# Altium schematic symbol library lib-hiony.SchLib: 199 symbols (part 3 of 4)
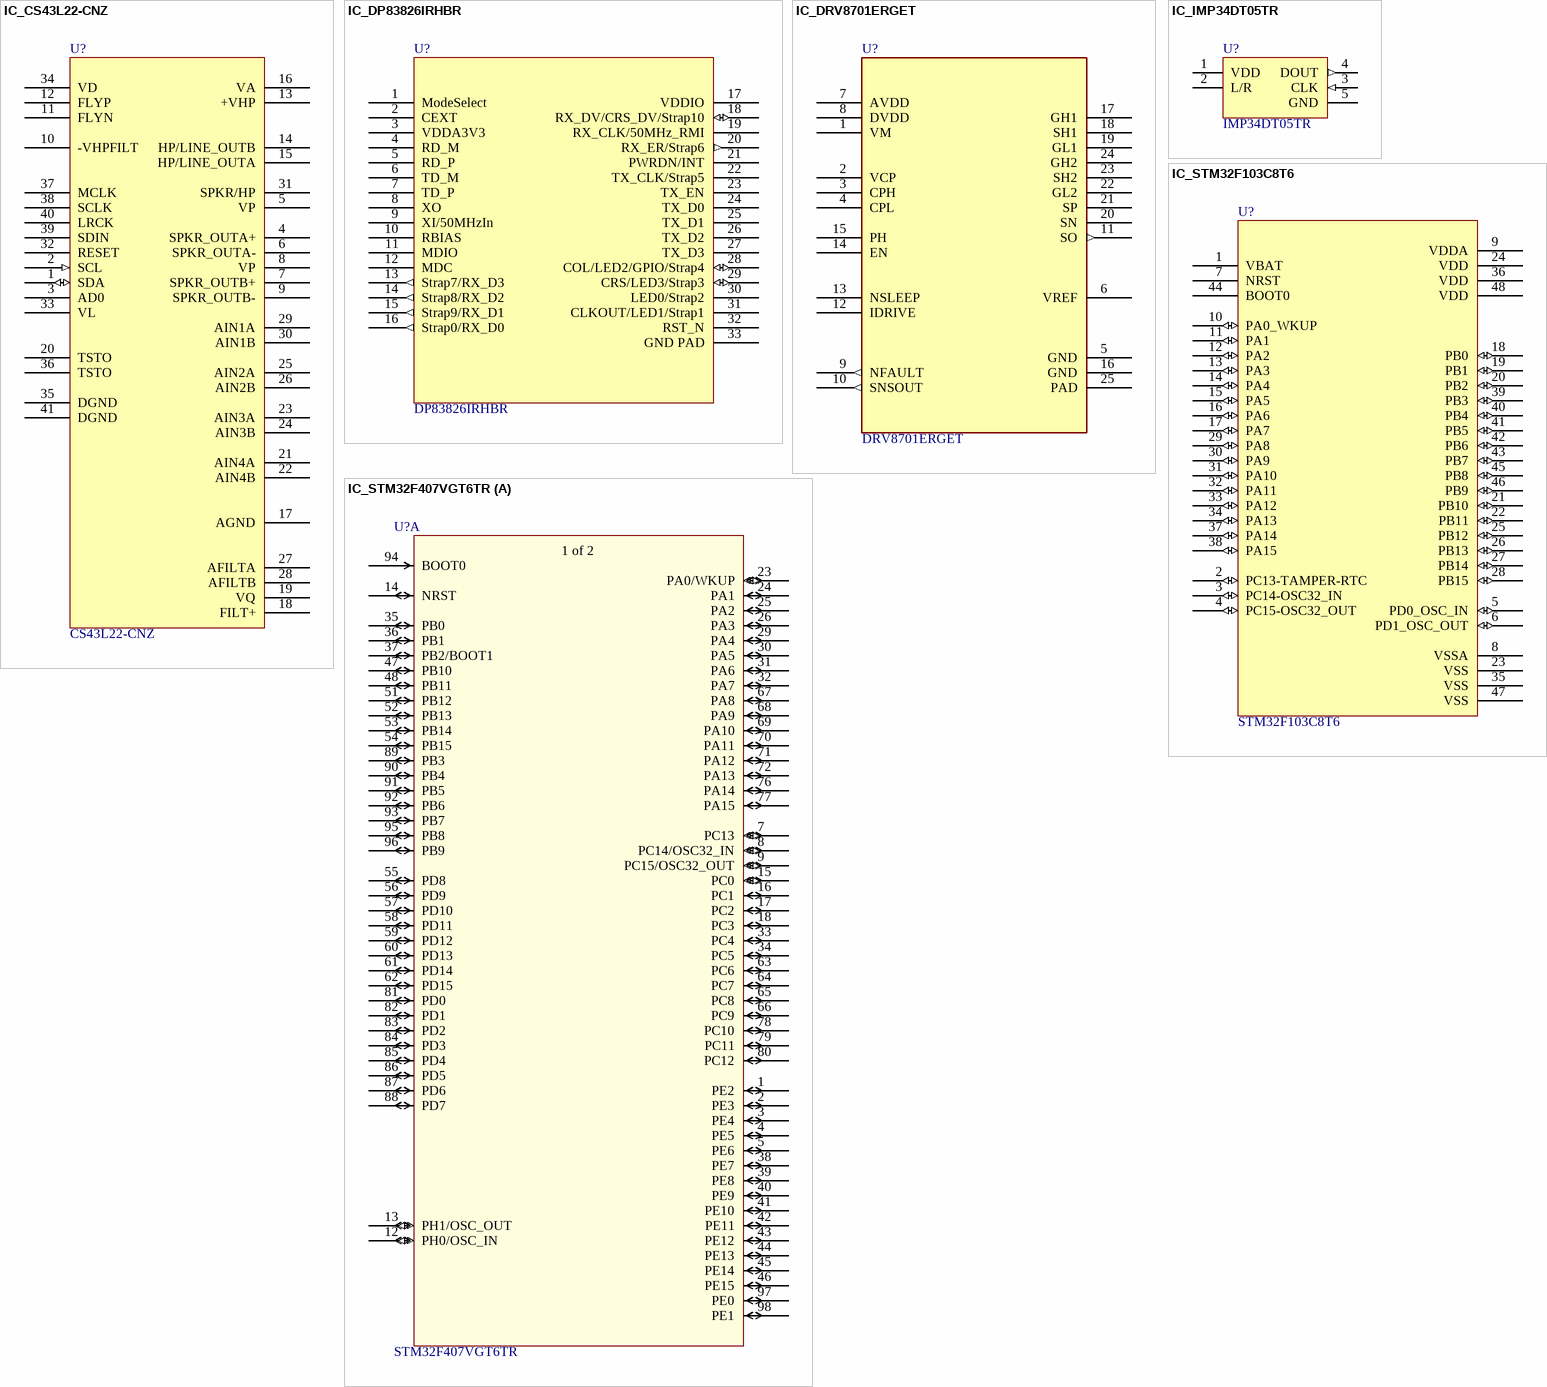
[diagram p7: symbols IC_CS43L22-CNZ to IC_STM32F407VGT6TR]

## IC_DP83826IRHBR
designator U?, comment DP83826IRHBR
Ethernet MAC Controller IEEE 802.3, 10/100 Base-T/TX PHY MII, RMII Interface 32-VQFN (5x5); Manufacturer: Texas Instruments; Supplier 1: Digi-Key; Manufacturer Part Number: DP83826IRHBR; RoHS: Yes; Pricing 1: 1=2.14000, 10=1.91900, 25=1.81000, 100=1.54210, 250=1.44796, 500=1.26696, 1000=1.14061 (USD); Supplier Part Number 1: 296-DP83826IRHBRCT-ND
footprint VQFN32_19_218_23X9_SMD
pins: 1 ModeSelect, 2 CEXT, 3 VDDA3V3, 4 RD_M, 5 RD_P, 6 TD_M, 7 TD_P, 8 XO, 9 XI/50MHzIn, 10 RBIAS, 11 MDIO, 12 MDC, 13 Strap7/RX_D3 (out), 14 Strap8/RX_D2 (out), 15 Strap9/RX_D1 (out), 16 Strap0/RX_D0 (out), 17 VDDIO, 18 RX_DV/CRS_DV/Strap10 (io), 19 RX_CLK/50MHz_RMI, 20 RX_ER/Strap6 (out), 21 PWRDN/INT, 22 TX_CLK/Strap5, 23 TX_EN, 24 TX_D0, 25 TX_D1, 26 TX_D2, 27 TX_D3, 28 COL/LED2/GPIO/Strap4 (io), 29 CRS/LED3/Strap3 (io), 30 LED0/Strap2, 31 CLKOUT/LED1/Strap1, 32 RST_N, 33 GND PAD

## IC_DRV8701ERGET
designator U?, comment DRV8701ERGET
IC MOTOR DRIVER 0V-5.5V 24VQFN; Manufacturer: Texas Instruments; Supplier 1: Digi-Key; Manufacturer Part Number: DRV8701ERGET; Category: Integrated Circuits (ICs); Pricing 1: 1=2.52000, 10=2.26100, 25=2.13320, 100=1.81750 (USD); Mount: Surface Mount; Case/Package: VQFN; ComponentLink1URL: http://www.ti.com/general/docs/lit/getliterature.tsp?genericPartNumber=DRV8701&&fileType=pdf&src-supplier=Avnet; ComponentLink1Description: http://www.ti.com/general/docs/lit/getliterature.tsp?genericPartNumber=DRV8701&&fileType=pdf&src-supplier=Avnet; ComponentLink2URL: http://www.ti.com/lit/ds/symlink/drv8701.pdf?src-supplier=Digi-Key; ComponentLink2Description: http://www.ti.com/lit/ds/symlink/drv8701.pdf?src-supplier=Digi-Key
footprint QFN50P400X400X100-25N
pins: 1 VM, 2 VCP, 3 CPH, 4 CPL, 5 GND (power), 6 VREF, 7 AVDD (power), 8 DVDD (power), 9 NFAULT (out), 10 SNSOUT (out), 11 SO (out), 12 IDRIVE, 13 NSLEEP, 14 EN, 15 PH, 16 GND (power), 17 GH1, 18 SH1, 19 GL1, 20 SN, 21 SP, 22 GL2, 23 SH2, 24 GH2, 25 PAD (power)

## IC_IMP34DT05TR
designator U?, comment IMP34DT05TR
MEMS Microphones AUTO & INDUSTRIAL SENSORS; Manufacturer: STMicroelectronics; Alternate Part Number-1: NA; Manufacturer Part Number: IMP34DT05TR; Case/Package: HCLGA-4; Supplier-1: Mouser; Supplier Part Number-1: 511-IMP34DT05TR
footprint HCLGA-4_53_137_15X37_SMD
pins: 1 VDD, 2 L/R, 3 CLK (in), 4 DOUT (out), 5 GND

## IC_STM32F103C8T6
designator U?, comment STM32F103C8T6
STMICROELECTRONICS - STM32F103C8T6 - ARM MCU, Motor Control, STM32 Family STM32F1 Series Microcontrollers, ARM Cortex-M3, 32bit, 72 MHz; Number of I/Os: 37; Supplier 1: Digi-Key; Manufacturer: STMicroelectronics; Manufacturer Part Number: STM32F103C8T6; Category: Microcontrollers; Pricing 1: 1=5.95000, 10=5.34300, 25=5.05120, 80=4.37763, 250=4.15316, 500=3.72664, 1000=3.27390 (USD); Case/Package: LQFP; Number of Pins: 48; ComponentLink1URL: https://datasheet.ciiva.com/15122/getdatasheetpartid-69880-15122076.pdf?src-supplier=Verical; ComponentLink1Description: https://datasheet.ciiva.com/15122/getdatasheetpartid-69880-15122076.pdf?src-supplier=Verical; ComponentLink2URL: https://datasheet.ciiva.com/26816/stm32f103c8t6-26816902.pdf?src-supplier=IIIC; ComponentLink2Description: https://datasheet.ciiva.com/26816/stm32f103c8t6-26816902.pdf?src-supplier=IIIC; ComponentLink3URL: https://datasheet.ciiva.com/16210/cd00161566-16210248.pdf?src-supplier=Future+Electronics; ComponentLink3Description: https://datasheet.ciiva.com/16210/cd00161566-16210248.pdf?src-supplier=Future+Electronics; ComponentLink4URL: https://datasheet.ciiva.com/14100/pustm-arm-microcont-stm32f103-en-14100508.pdf?src-supplier=Distrelec; ComponentLink4Description: https://datasheet.ciiva.com/14100/pustm-arm-microcont-stm32f103-en-14100508.pdf?src-supplier=Distrelec; ComponentLink5URL: https://datasheet.ciiva.com/8054/1730126-8054942.pdf?src-supplier=Element14; ComponentLink5Description: https://datasheet.ciiva.com/8054/1730126-8054942.pdf?src-supplier=Element14; ComponentLink6URL: https://datasheet.ciiva.com/48687/001075658-da-01-en-mcu-64kb-mem-stm32f103c8t6-lqfp-48-stm-48687589.pdf?src-supplier=Conrad; ComponentLink6Description: https://datasheet.ciiva.com/48687/001075658-da-01-en-mcu-64kb-mem-stm32f103c8t6-lqfp-48-stm-48687589.pdf?src-supplier=Conrad
footprint LQFP-48_SMD
pins: 1 VBAT, 2 PC13-TAMPER-RTC (io), 3 PC14-OSC32_IN (io), 4 PC15-OSC32_OUT (io), 5 PD0_OSC_IN (io), 6 PD1_OSC_OUT (io), 7 NRST, 8 VSSA (power), 9 VDDA (power), 10 PA0_WKUP (io), 11 PA1 (io), 12 PA2 (io), 13 PA3 (io), 14 PA4 (io), 15 PA5 (io), 16 PA6 (io), 17 PA7 (io), 18 PB0 (io), 19 PB1 (io), 20 PB2 (io), 21 PB10 (io), 22 PB11 (io), 23 VSS (power), 24 VDD (power), 25 PB12 (io), 26 PB13 (io), 27 PB14 (io), 28 PB15 (io), 29 PA8 (io), 30 PA9 (io), 31 PA10 (io), 32 PA11 (io), 33 PA12 (io), 34 PA13 (io), 35 VSS (power), 36 VDD (power), 37 PA14 (io), 38 PA15 (io), 39 PB3 (io), 40 PB4 (io), 41 PB5 (io), 42 PB6 (io), 43 PB7 (io), 44 BOOT0, 45 PB8 (io), 46 PB9 (io), 47 VSS (power), 48 VDD (power)

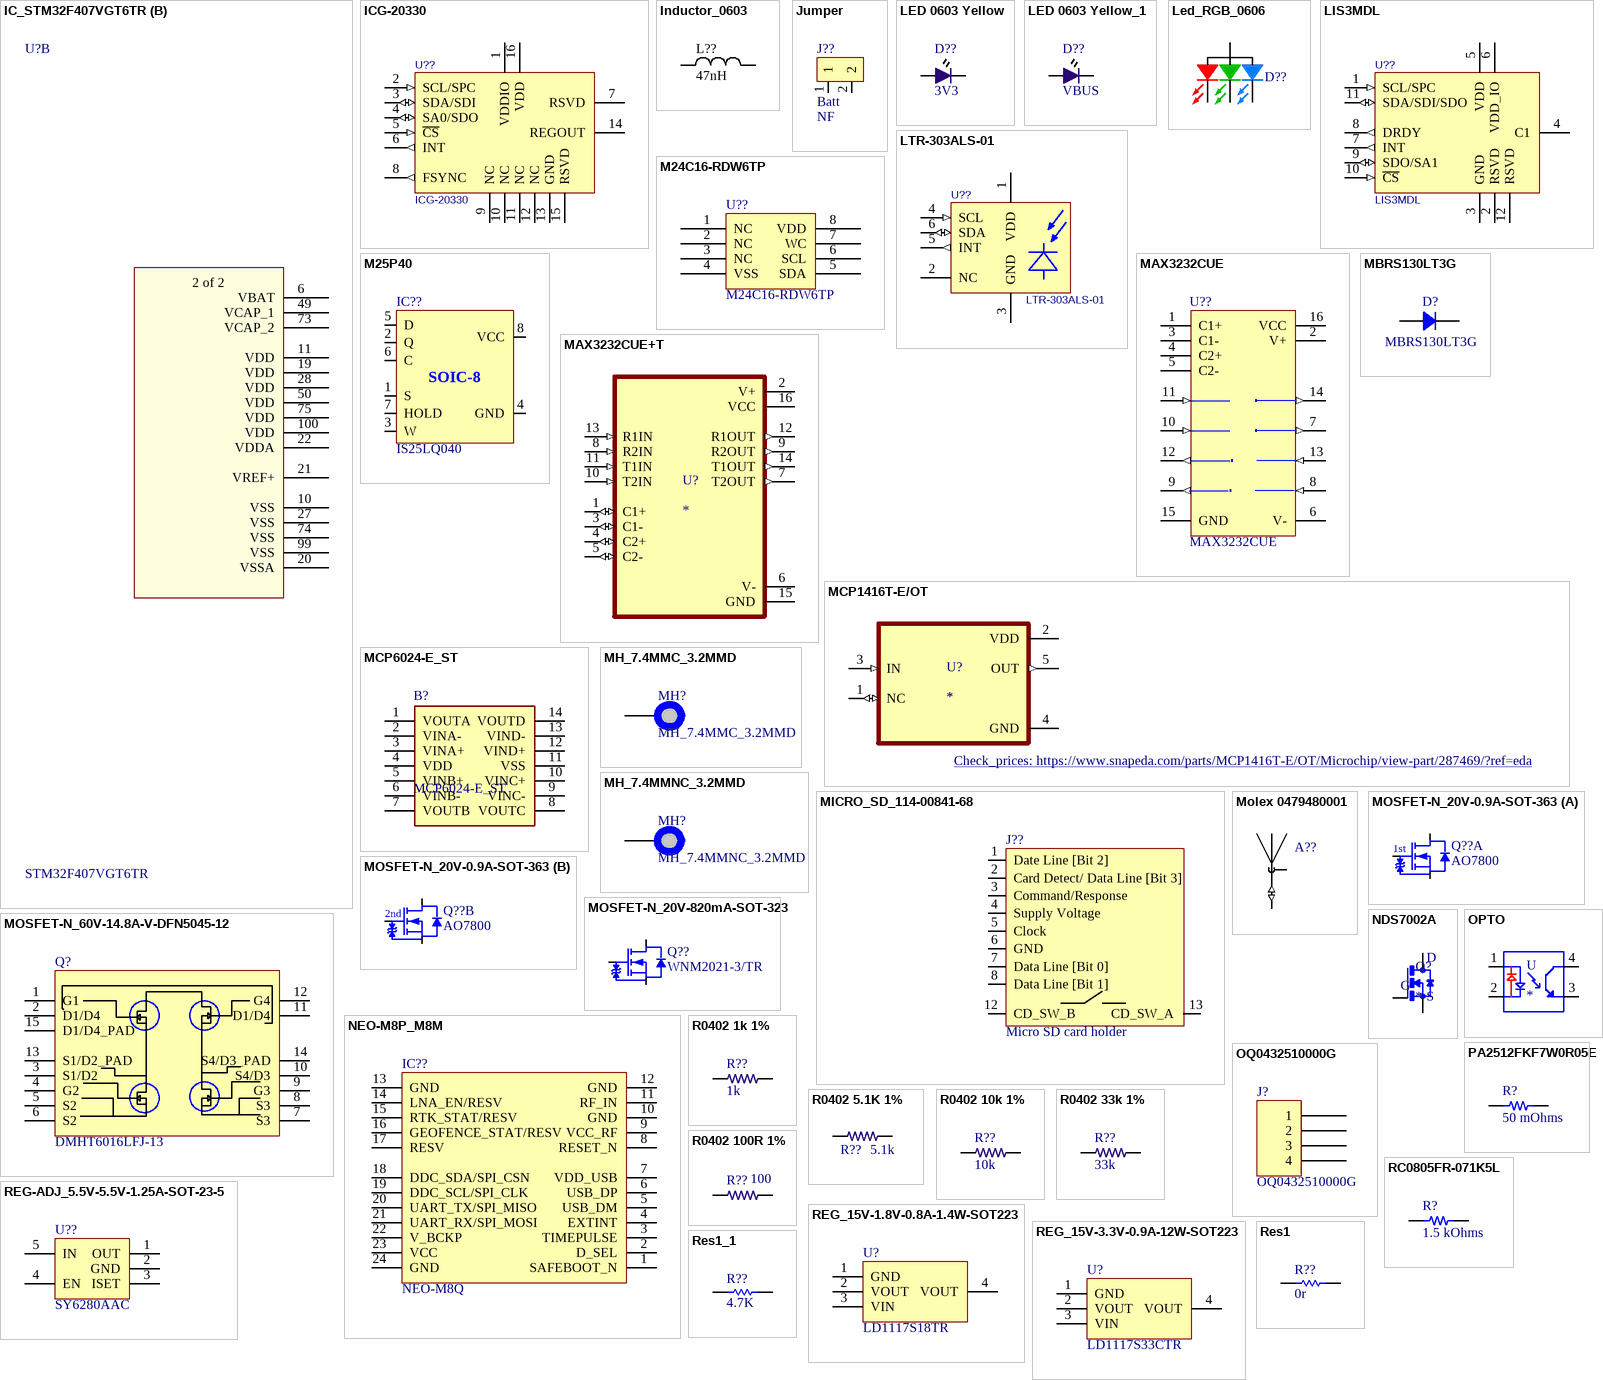
[diagram p4: symbols IC_STM32F407VGT6TR to Res1_1]

## IC_STM32F407VGT6TR
designator U?, comment STM32F407VGT6TR
STM32F Series 1 MB Flash 192 kB RAM ARM Based 32-Bit Microcontroller - LQFP-100; Manufacturer: STMicroelectronics; Number of I/Os: 82; Supplier 1: Digi-Key; Manufacturer Part Number: STM32F407VGT6TR; Category: Microcontrollers; Pricing 1: 1=13.51000, 10=12.41300, 25=11.89840, 100=10.48360, 250=9.96904, 500=9.37948 (USD); Case/Package: LQFP; Number of Pins: 100; Packaging: Tape and Reel; ComponentLink1URL: https://datasheet.ciiva.com/46384/1719442-46384038.pdf?src-supplier=Element14; ComponentLink1Description: https://datasheet.ciiva.com/46384/1719442-46384038.pdf?src-supplier=Element14; ComponentLink2URL: https://datasheet.ciiva.com/29719/dm00037051-29719319.pdf?src-supplier=Digi-Key; ComponentLink2Description: https://datasheet.ciiva.com/29719/dm00037051-29719319.pdf?src-supplier=Digi-Key; ComponentLink3URL: https://datasheet.ciiva.com/22692/1719442-22692042.pdf?src-supplier=Element14; ComponentLink3Description: https://datasheet.ciiva.com/22692/1719442-22692042.pdf?src-supplier=Element14; ComponentLink4URL: https://datasheet.ciiva.com/12270/dm00037051-492832-12270799.pdf?src-supplier=Mouser; ComponentLink4Description: https://datasheet.ciiva.com/12270/dm00037051-492832-12270799.pdf?src-supplier=Mouser; Supplier Part Number 1: 497-17437-6-ND
footprint QFN100_19.6_669_58X10_SMD
part A pins: 1 PE2, 2 PE3, 3 PE4, 4 PE5, 5 PE6, 7 PC13 (io), 8 PC14/OSC32_IN (io), 9 PC15/OSC32_OUT (io), 12 PH0/OSC_IN (io), 13 PH1/OSC_OUT (io), 14 NRST, 15 PC0 (io), 16 PC1, 17 PC2, 18 PC3, 23 PA0/WKUP (io), 24 PA1, 25 PA2, 26 PA3, 29 PA4, 30 PA5, 31 PA6, 32 PA7, 33 PC4, 34 PC5, 35 PB0, 36 PB1, 37 PB2/BOOT1, 38 PE7, 39 PE8, 40 PE9, 41 PE10, 42 PE11, 43 PE12, 44 PE13, 45 PE14, 46 PE15, 47 PB10, 48 PB11, 51 PB12, 52 PB13, 53 PB14, 54 PB15, 55 PD8, 56 PD9, 57 PD10, 58 PD11, 59 PD12, 60 PD13, 61 PD14, 62 PD15, 63 PC6, 64 PC7, 65 PC8, 66 PC9, 67 PA8, 68 PA9, 69 PA10, 70 PA11, 71 PA12, 72 PA13, 76 PA14, 77 PA15, 78 PC10, 79 PC11, 80 PC12, 81 PD0, 82 PD1, 83 PD2, 84 PD3, 85 PD4, 86 PD5, 87 PD6, 88 PD7, 89 PB3, 90 PB4, 91 PB5, 92 PB6, 93 PB7, 94 BOOT0, 95 PB8, 96 PB9, 97 PE0, 98 PE1
part B pins: 6 VBAT (power), 10 VSS (power), 11 VDD (power), 19 VDD (power), 20 VSSA (power), 21 VREF+ (power), 22 VDDA (power), 27 VSS (power), 28 VDD (power), 49 VCAP_1 (power), 50 VDD (power), 73 VCAP_2 (power), 74 VSS (power), 75 VDD (power), 99 VSS (power), 100 VDD (power)
part A text: 1 of 2
part B text: 2 of 2

## ICG-20330
designator U??  Manufacturer Part Number 1: ICG-20330
SENSOR, Gyroscope, I2C, 3-AXIS, 1.7-3.45V, SMT, LGA-16, 3mmX3mm; Manufacturer 1: TDK InvenSense; Part Name: LIS3MDL; Body Size: 2mm x 2mm; Current: None; Item Phase: In Production; MFG Package: LGA-12; Use in new designs: Yes; Voltage: 1.9-3.6V; Part Number: ICG-20330; Height: 1mm; Max Operating Temp: 85; Min Operating Temp: -40; Pins: 12; Revision: 0A; UBX Code: None
footprint ICG-20330 (LGA 0.5mm Pitch, 3x3, 16 Pin, 3.0mm x 3.0mm)
pins: 1 VDDIO (power) "Digital I/O supply voltage", 2 SCL/SPC (in) "I2C serial clock (SCL); SPI serial clock (SPC)", 3 SDA/SDI (io) "I2C serial data (SDA); SPI serial data input (SDI)", 4 SA0/SDO (io) "I2C slave address LSB (SA0); SPI serial data output (SDO)", 5 ~{CS} (in) "Chip select (0 = SPI mode; 1 = I2C mode)", 6 INT (out) "Interrupt digital output (totem pole or open-drain)", 7 RSVD "Reserved. Do Not Connect.", 8 FSYNC (out) "Synchronization digital input (optional).  Connect to GND if unused.", 9 NC "Connect to GND or do not connect", 10 NC "Connect to GND or do not connect", 11 NC "Connect to GND or do not connect", 12 NC "Connect to GND or do not connect", 13 GND (power) "Connect to GND", 14 REGOUT "Regulator filter capacitor connection", 15 RSVD "Reserved. Connect to GND", 16 VDD (power) "Power Supply"

## Inductor_0603
designator L??, comment 47nH
Manufacturer: COILCRAFT; Manufacturer Part Number: 0402HP-47NXJLU; Part Description: COILCRAFT  0402HP-47NXJLU  Surface Mount High Frequency Inductor, 0402HP Series, 47 nH, 420 mA, 0402 [1005 Metric], Wirewound; SVHC: No SVHC (15-Jun-2015); Inductance Tolerance: ± 5%; High Frequency Inductor Case: 0402 [1005 Metric]; Inductor Case Style: 0402 [1005 Metric]<!--FANDB--><div class="features-and-benefits-container"></div>; Inductance: 47; DC Resistance Max: 0.58; Self Resonant Frequency Min: 2.4; Product Range: 0402; DC Current Rating: 420; Inductor Construction: Wirewound; Supplier 1: Farnell; Supplier Part Number 1: 2285856; Packaging: Cut Tape; RoHS: Y-EX; value: 47nH; Manufacturer Part Number 1: 0402HP-47NXJLU
footprint RES0402 (Chip Resistor, Body 1.0x0.5mm, EIA 0402, IPC Medium Density)
pins: 1, 2

## Jumper
designator J??, comment Batt  Assembly Info: NF
Manufacturer Part Number 1: 961102-6404-AR; Part Description: 2 Positions Header, Unshrouded Connector 0.100" (2.54mm) Through Hole Gold; Manufacturer: 3M; Connector Type: Header, Unshrouded; Supplier 1: Digi-Key; Supplier Part Number 1: 3M9447-ND; Contact Type: Male Pin; Color: Black; Mounting Type: Through Hole; Category: Connectors, Interconnects; Contact Finish: Gold
footprint HDR_1x2
pins: 1, 2

## LED 0603 Yellow
designator D??, comment 3V3
LED YELLOW CLEAR 0603 SMD; Supplier 1: Digi-Key; Supplier Part Number 1: 732-4981-1-ND
footprint LED0603-IPC
pins: A, K

## LED 0603 Yellow_1
designator D??, comment VBUS
LED YELLOW CLEAR 0603 SMD; Supplier 1: Digi-Key; Supplier Part Number 1: 732-4981-1-ND
footprint LED0603-IPC
pins: A, K

## Led_RGB_0606
designator D??, comment RGB  (value not drawn)
RGB Led 1.6 x 1.6 mm Diffused; Manufacturer: Everlight; Manufacturer Part Number: 19-237/R6GHBHW-C01/2T; Supplier 1: Digi-Key; Supplier Part Number 1: 1080-1590-1-ND
footprint RGB-LED
pins: A, BK, GK, RK

## LIS3MDL
designator U??  Manufacturer Part Number 1: LIS3MDL
SENSOR, MAGNETOMETER, I2C, 3-AXIS, 1.9-3.6V, SMT, LGA-12, 2mmX2mm; Manufacturer 1: ST Micro; Current: None; Item Phase: In Production; Use in new designs: Yes; Part Number: LIS3MDL; Body Size: 2mm x 2mm; Height: 1mm; MFG Package: LGA-12; Max Operating Temp: 85; Min Operating Temp: -40; Part Name: LIS3MDL; Pins: 12; Revision: 0A; Voltage: 1.9-3.6V; UBX Code: None
footprint LIS3MDL (LGA 0.5mm Pitch, 4x4 w/shared corners, 12 Pin, 2.0mm x 2.0mm)
pins: 1 SCL/SPC (in) "Serial Clock Input", 2 RSVD "Reserved, Connect to Ground", 3 GND (power), 4 C1 "Connect to 100nF capacitor", 5 VDD (power) "Power Supply In", 6 VDD_IO (power) "Power Supply for I/O", 7 INT (out) "Interrupt Output", 8 DRDY (out) "Data Ready Output", 9 SDO/SA1 (io) "SPI serial data output (SDO)I2C less significant bit of the device address (SA1", 10 ~{CS} (in) "Chip Select", 11 SDA/SDI/SDO (io) "Serial Data", 12 RSVD "Reserved, Connect to Ground"

## LTR-303ALS-01
designator U??  Manufacturer Part Number 1: LTR-303ALS-01
SENSOR, AMBIENT LIGHT, I2C, SMT, GNSS, DFN-6 2mmX2mm; Manufacturer 1: Lite-On; Part Name: B39162B4353P810; Body Size: 1.4mm x 1.1mm; Current: None; Item Phase: In Production; MFG Package: QCS5P; Use in new designs: Yes; Part Number: LTR-303ALS-01; Height: 0.45mm; Max Operating Temp: 85; Min Operating Temp: -40; Pins: 5; Revision: 0A; Voltage: N/A; UBX Code: None
footprint LTR-303ALS-01 (6-VFDFN, 6 pin Lite-ON Light Sensor, .65mm pitch, 2mmX2mm)
pins: 1 VDD (power) "Power Supply", 2 NC "No Connection", 3 GND (power) "Ground", 4 SCL (in) "I2C Clock Signal", 5 INT (out) "Open Drain Interrupt Output", 6 SDA (io) "I2C Data Signal"

## M24C16-RDW6TP
designator U??
IC EEPROM 16KBIT 400KHZ 8TSSOP; Digi-Key Part Number: 497-8639-1-ND; Manufacturer Part Number: M24C16-RDW6TP
footprint EEROM
pins: 1 NC, 2 NC, 3 NC, 4 VSS, 5 SDA, 6 SCL, 7 WC, 8 VDD

## M25P40
designator IC??, comment IS25LQ040
Manufacturer Part Number 1: IS25LQ040B-JNLE; Manufacturer: ISSI, Integrated Silicon Solution Inc; Part Description: FLASH - NOR Memory IC 4Mb (512K x 8) SPI - Quad I/O 104MHz  8-SOIC; Memory Type: Non-Volatile; Memory Format: FLASH; Memory Size: 4Mb (512K x 8); Write Cycle Time - Word, Page: 800µs; Memory Interface: SPI - Quad I/O; Voltage - Supply: 2.3 V ~ 3.6 V; Category: Integrated Circuits (ICs); Supplier Part Number 1: 706-1316-ND; Supplier 1: Digi-Key; RoHS: RoHS Compliant; Packaging: Bulk; Part Status: Active; Technology: FLASH - NOR; Operating Temperature: -40°C ~ 105°C (TA); Mounting Type: Surface Mount; Package / Case: 8-SOIC (0.154", 3.90mm Width); Supplier Device Package: 8-SOIC; Value: IS25LQ040
footprint M25P40-VMN6TPB_SO8N (SOIC, 8-Leads, Body 4,90x3,90mm, Pitch 1,27mm, IPC Medium Density)
pins: 1 S, 2 Q, 3 W, 4 GND, 5 D, 6 C, 7 HOLD, 8 VCC
text: SOIC-8

## MAX3232CUE
designator U??
IC TXRX RS232 250KBPS 16TSSOP; Manufacturer Part Number: MAX3232EIPWR; Digi-Key Part Number: 296-19436-1-ND
footprint TSSOP16_N (TSOP, 16-Leads, Body 5x4.4mm, Pitch 0.65mm, IPC Medium Density)
footprint TSSOP16_L (TSOP, 16-Leads, Body 5x4.4mm, Pitch 0.65mm, IPC High Density)
footprint TSSOP16_M (TSOP, 16-Leads, Body 5x4.4mm, Pitch 0.65mm, IPC Low Density)
3D model TSSOP16 (16-Pin Thin Small Outline Package 0.65 mm Pitch)
pins: 1 C1+, 2 V+ (power), 3 C1-, 4 C2+, 5 C2-, 6 V- (power), 7 T2OUT (out), 8 R2IN (in), 9 R2OUT (out), 10 T2IN (in), 11 T1IN (in), 12 R1OUT (out), 13 R1IN (in), 14 T1OUT (out), 15 GND (power), 16 VCC (power)

## MAX3232CUE+T
designator U?
3.0V to 5.5V, Low-Power, Up to 1Mbps, True RS-232 Transceivers; MF: Maxim Integrated; MP: MAX3232CUE+T; Digi-Key_Part_Number: MAX3232CUE+TTR-ND; Purchase-URL: https://pricing.snapeda.com/search/part/MAX3232CUE+T/?ref=eda; Value: *; Package: None; SnapEDA_Link: https://www.snapeda.com/parts/MAX3232CUE+T/Maxim+Integrated/view-part/?ref=snap; Check_prices: https://www.snapeda.com/parts/MAX3232CUE+T/Maxim+Integrated/view-part/?ref=eda
footprint MAX232
pins: 1 C1+ (io), 2 V+ (power), 3 C1- (io), 4 C2+ (io), 5 C2- (io), 6 V- (power), 7 T2OUT (out), 8 R2IN (in), 9 R2OUT (out), 10 T2IN (in), 11 T1IN (in), 12 R1OUT (out), 13 R1IN (in), 14 T1OUT (out), 15 GND (power), 16 VCC (power)

## MBRS130LT3G
designator D?
DIODE SCHOTTKY 30V 2A SMB; Manufacturer: ON Semiconductor; Current - Reverse Leakage @ Vr: 1mA @ 30V; Speed: Fast Recovery =< 500ns, > 200mA (Io); Voltage - Forward (Vf) (Max) @ If: 445mV @ 2A; Part Number: MBRS130LT3G; ComponentLink1Description: Datasheet; ComponentLink1URL: https://www.onsemi.com/pub/Collateral/MBRS130LT3-D.PDF; ComponentLink2Description: DigiKey Link; ComponentLink2URL: http://digikey.com/product-detail/en/on-semiconductor/MBRS130LT3G/MBRS130LT3GOSCT-ND/918000; Current - Average Rectified (Io): 2A; Diode Type: Schottky; LastUpdated: 9/2/2020 01:18:53; Lifecycle Status: Active; Minimum Order: 1; Mounting Type: Surface Mount; Operating Temperature - Junction: -65°C ~ 125°C; Package / Case: DO-214AA, SMB; Packaging: TapeAndReel; PartId: 1388; Part Status: Active; Price: 0.09; Series: -; Supplier 1: DigiKey; Supplier Part Number 1: MBRS130LT3GOSCT-ND; Supplier Device Package: SMB; Voltage - DC Reverse (Vr) (Max): 30V
footprint DO214AA SMB
pins: 1, 2

## MCP1416T-E/OT
designator U?
Low-Side Gate Driver IC Non-Inverting SOT-23-5; MF: Microchip; MP: MCP1416T-E/OT; Price: None; Availability: Good; SnapEDA_Link: https://www.snapeda.com/parts/MCP1416T-E/OT/Microchip/view-part/287469/?ref=snap; Package: SOT-23-5 Microchip; Value: *; Purchase-URL: https://pricing.snapeda.com/search/part/MCP1416T-E/OT/?ref=eda; Check_prices: https://www.snapeda.com/parts/MCP1416T-E/OT/Microchip/view-part/287469/?ref=eda
footprint SOT95P270X145-5N
pins: 1 NC (io), 2 VDD (power), 3 IN (in), 4 GND (power), 5 OUT (out)

## MCP6024-E_ST
designator B?
OP Amp Quad GP R-R I/O 5.5V; Manufacturer_Name: Microchip; Manufacturer_Part_Number: MCP6024-E/ST; Geometry.Height: 1.2mm; Mouser Part Number: 579-MCP6024-E/ST; Mouser Price/Stock: https://www.mouser.co.uk/ProductDetail/Microchip-Technology/MCP6024-E-ST?qs=Lo1urCY4z7s5t%252Byy%252BI7phw%3D%3D; Datasheet Link: https://ww1.microchip.com/downloads/en/DeviceDoc/20001685E.pdf
footprint SOP65P640X120-14N
pins: 1 VOUTA, 2 VINA-, 3 VINA+, 4 VDD, 5 VINB+, 6 VINB-, 7 VOUTB, 8 VOUTC, 9 VINC-, 10 VINC+, 11 VSS, 12 VIND+, 13 VIND-, 14 VOUTD

## MH_7.4MMC_3.2MMD
designator MH?
Mounting Hole 7.4mm Diameter, 3.2mm Dril
footprint MH_7.4MMC_3.2MMD
pins: 1

## MH_7.4MMNC_3.2MMD
designator MH?
Mounting Hole 7.4mm Diameter (Non Copper), 3.2mm Dril NPTH
footprint MH_7.4MM_3.2MMD_NON_COPPER_NPTH
pins: 1

## MICRO_SD_114-00841-68
designator J??, comment Micro SD card holder
Manufacturer: Amphenol Commercial Products; Manufacturer Part Number 1: 114-00841-68; Part Description: 10 (8 + 2) Position Card Connector Secure Digital - microSD™ Surface Mount, Right Angle Gold; Card Type: Secure Digital - microSD™; Number of Positions: 10 (8 + 2); Connector Type: Connector; Insertion, Removal Method: Push In, Pull Out; Supplier 1: Digi-Key; RoHS: RoHS Compliant; Category: Connectors, Interconnects; Stock 1: 5866; Pricing 1: 1=1.5, 10=1.358, 25=1.2752, 50=1.2196, 100=1.1642, 250=1.05336, 500=0.9702 (USD); Packaging: Cut Tape (CT); Part Status: Active; Ejector Side: -; Mounting Type: Surface Mount, Right Angle; Features: Switch; Height Above Board: 0.061" (1.55mm); Mounting Feature: Normal, Standard - Top; Contact Finish: Gold; Contact Finish Thickness: 15.0µin (0.38µm); ComponentLink1URL: https://www.amphenolcanada.com/ProductSearch/drawings/AC/1140084168.pdf; ComponentLink1Description: https://www.amphenolcanada.com/ProductSearch/drawings/AC/1140084168.pdf; Supplier Part Number 1: 114-00841-68-1-ND
footprint MICRO_SD_CARD_114-00841-68_v2
pins: 1 Date Line [Bit 2], 2 Card Detect/ Data Line [Bit 3], 3 Command/Response, 4 Supply Voltage, 5 Clock, 6 GND, 7 Data Line [Bit 0], 8 Data Line [Bit 1], 12 CD_SW_B, 13 CD_SW_A

## Molex 0479480001
designator A??, comment 0479480001  (value not drawn)
2.4GHz Bluetooth, WLAN, Zigbee™ Chip RF Antenna 2.4GHz ~ 2.483.5GHz 3dBi Solder Surface Mount; Supplier 1: Digi-Key; Supplier 2: Mouser; Supplier Part Number 2: 538-47948-0001; Supplier Part Number 1: WM4893CT-ND
footprint 0479480001 (Molex 0479480001 2.4GHz Chip Antenna)
pins: 1 FEED (io), 2 (power)

## MOSFET-N_20V-0.9A-SOT-363
designator Q??, comment AO7800
DualNChannel 20V 900mA 900mV @ 250uA 300mΩ @ 900mA,4.5V 300mW SC-70-6(SOT-363) MOSFET RoHS; Manufacturer: Alpha & Omega Semicon; Mnaufacturer Part Number: AO7800; Case/Package: SC-70-6(SOT-363); Supplier-1: LCSC
footprint SOT363-6 (SOT363)
part A pins: 1 S1, 2 G1, 6 D1
part B pins: 3 D2, 4 S2, 5 G2
part A text: 1st
part B text: 2nd

## MOSFET-N_20V-820mA-SOT-323
designator Q??, comment WNM2021-3/TR
N Channel 20V 820mA 850mV @ 250uA 310mΩ @ 550mA,4.5V 310mW SOT-323(SC-70) MOSFET RoHS; Manufacturer: WILLSEMI(Will Semicon); Manufacturer Part Number: WNM2021-3/TR; Case/Package: SOT-323(SC-70); Supplier-1: LCSC
footprint SOT-323-3 (SOT Package)
pins: 1 G, 2 S, 3 D

## MOSFET-N_60V-14.8A-V-DFN5045-12
designator Q?, comment DMHT6016LFJ-13
Mosfet Array 4 N-Channel 14.8A (Ta) Surface Mount V-DFN5045-12; Manufacturer: Diodes; Supplier 1: Digi-Key; Manufacturer Part Number: DMHT6016LFJ-13; Category: MOSFETs; Pricing 1: 1=1.65000, 10=1.48400, 25=1.40040, 100=1.19310, 500=0.98020, 1000=0.81217 (USD); Mount: Surface Mount; Packaging: Tape and Reel; ComponentLink1URL: https://www.diodes.com/assets/Datasheets/DMHT6016LFJ.pdf?src-supplier=Digi-Key; ComponentLink1Description: https://www.diodes.com/assets/Datasheets/DMHT6016LFJ.pdf?src-supplier=Digi-Key; Supplier Part Number 1: DMHT6016LFJ-13DICT-ND
footprint DFN5045-12_33_212_27X15_SMD_1
pins: 1 G1, 2 D1/D4, 3 S1/D2, 4 G2, 5 S2, 6 S2, 7 S3, 8 S3, 9 G3, 10 S4/D3, 11 D1/D4, 12 G4, 13 S1/D2_PAD, 14 S4/D3_PAD, 15 D1/D4_PAD

## NDS7002A
designator Q?
NDS Series N-Channel 60 V 2 Ohm Enhancement Mode Field Effect Transistor SOT-23; MP: NDS7002A; MF: ON Semiconductor; Check_prices: https://www.snapeda.com/parts/NDS7002A/Onsemi/view-part/?ref=eda; Value: *; Availability: In Stock; Price: None; Package: SOT-23-3 ON Semiconductor; SnapEDA_Link: https://www.snapeda.com/parts/NDS7002A/Onsemi/view-part/?ref=snap; Purchase-URL: https://pricing.snapeda.com/search/part/NDS7002A/?ref=eda
footprint SOT23
pins: 1 G, 2 S, 3 D

## NEO-M8P_M8M
designator IC??, comment NEO-M8Q
GNSS engine for GPS/QZSS, GLONASS; Manufacturer: u-blox; Manufacturer Part Number: NEO-M8Q-0; ComponentLink1URL: https://www.u-blox.com/en/product/neo-7-series; ComponentLink2Description: Datasheet; ComponentLink1Description: https://www.u-blox.com/en/product/neo-7-series; ComponentLink3URL: https://www.u-blox.com/sites/default/files/NEO-M8-FW3_DataSheet_(UBX-15031086).pdf; ComponentLink3Description: https://www.u-blox.com/sites/default/files/NEO-M8-FW3_DataSheet_(UBX-15031086).pdf; Supplier 1: Digi-Key; Supplier Part Number 1: 672-1009-1-ND; Stock 1: 5505; Pricing 1: 1=25, 10=20.244, 50=16.6216, 100=13.314 (USD); Value: NEO-M8Q
footprint NEO-7M/8M
pins: 1 SAFEBOOT_N, 2 D_SEL, 3 TIMEPULSE, 4 EXTINT, 5 USB_DM, 6 USB_DP, 7 VDD_USB, 8 RESET_N, 9 VCC_RF, 10 GND, 11 RF_IN, 12 GND, 13 GND, 14 LNA_EN/RESV, 15 RTK_STAT/RESV, 16 GEOFENCE_STAT/RESV, 17 RESV, 18 DDC_SDA/SPI_CSN, 19 DDC_SCL/SPI_CLK, 20 UART_TX/SPI_MISO, 21 UART_RX/SPI_MOSI, 22 V_BCKP, 23 VCC, 24 GND

## OPTO
designator U
Optoisolator Transistor Output 3750Vrms 1 Channel 4-SOP; MP: TCMT1100; MF: Vishay Semiconductor; Digi-Key_Part_Number: TCMT1100CT-ND; Mouser-Purchase-URL: https://snapeda.com/shop?store=Mouser&id=286066; DigiKey-Purchase-URL: https://snapeda.com/shop?store=DigiKey&id=286066; Package: SOP-4 Vishay; SnapEDA_Link: https://www.snapeda.com/parts/TCMT1100/Vishay%20Semiconductor%20Opto%20Division/view-part/286066/?ref=snap; Value: *; Check_prices: https://www.snapeda.com/parts/TCMT1100/Vishay%20Semiconductor%20Opto%20Division/view-part/286066/?ref=eda
footprint OPTO
pins: 1 A, 2 C, 3 ET, 4 CT

## OQ0432510000G
designator J?
TERM BLOCK HDR 4POS 90DEG 3.81MM; Manufacturer: Amphenol Anytek; Current - UL: 10A; Header Orientation: 90°, Right Angle; Number of Levels: 1; Number of Positions: 4; Pitch: 0.150" (3.81mm); Voltage - UL: 300V; Part Number: OQ0432510000G; Color: Green; ComponentLink1Description: Datasheet; ComponentLink1URL: http://portal.fciconnect.com/Comergent//fci/drawing/oqxx32x100j0g.pdf; ComponentLink2Description: DigiKey Link; ComponentLink2URL: //digikey.com/product-detail/en/amphenol-anytek/OQ0432510000G/609-3821-ND/2261267; Contact Mating Finish: Tin; LastUpdated: 12/16/2019 19:15:03; Lifecycle Status: 0; Minimum Order: 1; Mounting Type: Through Hole; Operating Temperature: -40°C ~ 115°C; Packaging: Bulk; Part Status: Active; Positions Per Level: 4; Price: 0.71; Series: 06-381; Supplier 1: DigiKey; Supplier Part Number 1: 609-3821-ND; Termination Style: Solder; Type: Header, Male Pins, Shrouded (4 Side)
footprint FCI 06-381-4PIN
pins: 1, 2, 3, 4

## PA2512FKF7W0R05E
designator R?, comment 50 mOhms
METAL CURRENT SENSOR 2512 1% 100; Part Number: PA2512FKF7W0R05E; Manufacturer: Yageo; Power (Watts): 2W; Temperature Coefficient: ±100ppm/°C; ComponentLink1Description: Datasheet; ComponentLink1URL: http://www.yageo.com/documents/recent/PYu-PA_E_51_RoHS_10.pdf; ComponentLink2Description: DigiKey Link; ComponentLink2URL: http://digikey.com/product-detail/en/yageo/PA2512FKF7W0R05E/YAG6100CT-ND/9696554; Composition: Metal Element; Device Package: 2512 (6432 Metric); Features: Automotive AEC-Q200, Current Sense, Moisture Resistant; Height - Seated (Max): 0.035" (0.88mm); LastUpdated: 02/09/2020 01:26:58; Lifecycle Status: Active; Minimum Order: 1; Number of Terminations: 2; Operating Temperature: -55°C ~ 170°C; Package / Case: 2512 (6432 Metric); Packaging: TapeAndReel; Part Status: Active; Price: 0.20; Ratings: AEC-Q200; Resistance: 50 mOhms; Series: PA_E; Size / Dimension: 0.250" L x 0.125" W (6.35mm x 3.18mm); Supplier 1: DigiKey; Supplier Part Number 1: YAG6100CT-ND; Supplier Device Package: 2512; Tolerance: ±1%; Value: 50 mOhms
footprint RES 2512_6432
pins: 1, 2

## R0402 1k 1%
designator R??  value 1k  (hidden comment: R0402 1k 1%)
Chip Resistor, 0402, 1k ohms, 1%, 1/16 W; Supplier 1: Digi-Key; Supplier Part Number 1: 311-1.00KLRCT-ND
footprint R0402-IPC
footprint R0402-HIGH-DENSITY (Chip Resistor, 2-Leads, Body 1.00x0.50mm, IPC High Density)
pins: 1, 2

## R0402 5.1K 1%
designator R??  value 5.1k  (hidden comment: R0402 5.1K 1%)
RES SMD 5.1K OHM 1% 1/10W 0402; Temperature Coefficient: ±100ppm/°C; Features: Automotive AEC-Q200; Operating Temperature: -55°C ~ 155°C
footprint R0402-HIGH-DENSITY (Chip Resistor, 2-Leads, Body 1.00x0.50mm, IPC High Density)
footprint R0402-IPC
pins: 1, 2

## R0402 10k 1%
designator R??  value 10k  (hidden comment: R0402 10k 1%)
Chip Resistor, 0402, 10k ohms, 1%, 1/16 W; Supplier 1: Digi-Key; Supplier Part Number 1: 311-10.0KLRCT-ND
footprint R0402-IPC
footprint R0402-HIGH-DENSITY (Chip Resistor, 2-Leads, Body 1.00x0.50mm, IPC High Density)
pins: 1, 2

## R0402 33k 1%
designator R??  value 33k  (hidden comment: R0402 33k 1%)
Chip Resistor, 0402, 33k ohms, 1%, 1/16 W; Supplier 1: Digi-Key; Supplier Part Number 1: 311-33.0KLRCT-ND
footprint R0402-IPC
footprint R0402-HIGH-DENSITY (Chip Resistor, 2-Leads, Body 1.00x0.50mm, IPC High Density)
pins: 1, 2

## R0402 100R 1%
designator R??  value 100  (hidden comment: R0402 100R 1%)
Chip Resistor, 0402, 100 ohms, 1%, 1/16 W; Supplier 1: Digi-Key; Supplier Part Number 1: 311-100LRCT-ND
footprint R0402-IPC
footprint R0402-HIGH-DENSITY (Chip Resistor, 2-Leads, Body 1.00x0.50mm, IPC High Density)
pins: 1, 2

## RC0805FR-071K5L
designator R?, comment 1.5 kOhms
RES SMD 1.5K OHM 1% 1/8W 0805; Part Number: RC0805FR-071K5L; Manufacturer: Yageo; Power (Watts): 0.125W, 1/8W; Temperature Coefficient: ±100ppm/°C; ComponentLink1Description: Datasheet; ComponentLink1URL: https://www.yageo.com/upload/media/product/productsearch/datasheet/rchip/PYu-RC_Group_51_RoHS_L_10.pdf; ComponentLink2Description: DigiKey Link; ComponentLink2URL: http://digikey.com/product-detail/en/yageo/RC0805FR-071K5L/311-1.50KCRCT-ND/730443; Composition: Thick Film; Device Package: 0805 (2012 Metric); Features: Moisture Resistant; Height - Seated (Max): 0.024" (0.60mm); LastUpdated: 02/09/2020 01:15:14; Lifecycle Status: Active; Minimum Order: 1; Number of Terminations: 2; Operating Temperature: -55°C ~ 155°C; Package / Case: 0805 (2012 Metric); Packaging: CutTape; PartId: 32611; Part Status: Active; Price: 0.10; Resistance: 1.5 kOhms; Series: RC; Size / Dimension: 0.079" L x 0.049" W (2.00mm x 1.25mm); Supplier 1: DigiKey; Supplier Part Number 1: 311-1.50KCRCT-ND; Supplier Device Package: 0805; Tolerance: ±1%; Value: 1.5 kOhms
footprint RES 0805_2012
pins: 1, 2

## REG-ADJ_5.5V-5.5V-1.25A-SOT-23-5
designator U??, comment SY6280AAC
SOT-23-5 PMIC - Power Distribution Switches RoHS; Manufacturer: Silergy Corp; Manufacturer Part Number: SY6280AAC; Case/Package: SOT-23-5; Supplier-1: LCSC
footprint SOT23-5 (CASE: SOT)
pins: 1 OUT, 2 GND, 3 ISET, 4 EN, 5 IN

## REG_15V-1.8V-0.8A-1.4W-SOT223
designator U?, comment LD1117S18TR
LDO Voltage Regulators 1.8V 0.8A Positive; Manufacturer: STMicroelectronics; Alternate Part Number-1: NA; Manufacturer Part Number: LD1117S18TR; Case/Package: SOT-223-3; Supplier-1: Mouser; Supplier Part Number-1: 511-LD1117S18-TR
footprint SOT223_3 (CASE: SOT223)
pins: 1 GND, 2 VOUT, 3 VIN, 4 VOUT

## REG_15V-3.3V-0.9A-12W-SOT223
designator U?, comment LD1117S33CTR
Linear Voltage Regulator IC 1 Output 800mA SOT-223; Manufacturer: STMicroelectronics; Alternate Part Number-1: NA; Manufacturer Part Number: LD1117S33CTR; Case/Package: SOT223; Supplier-1: SP ROAD; Supplier Part Number-1: LD1117S33CTR
footprint SOT223_3
pins: 1 GND, 2 VOUT, 3 VIN, 4 VOUT

## Res1
designator R??, comment 0r
RES SMD 0.0OHM JUMPER 1/10W 0603; Manufacturer Part Number: RC1608J000CS; Digi-Key Part Number: 1276-3510-1-ND; Value: 0r
footprint RES0402
simulation model RESISTOR (Resistor)
signal-integrity model Res
footprint C0402
footprint c0603
pins: 1, 2

## Res1_1
designator R??, comment 4.7K
RES SMD 4.7K OHM 1% 1/10W 0603; Manufacturer Part Number: RC1608F472CS; Digi-Key Part Number: 1276-3502-1-ND; Value: 4.7K
footprint c0805 (Chip Capacitor, Body 2.0x1.3mm, IPC High Density)
simulation model RESISTOR (Resistor)
signal-integrity model Res
footprint 1608[0603]
footprint RES0402
footprint C0402
footprint C0603
pins: 1, 2

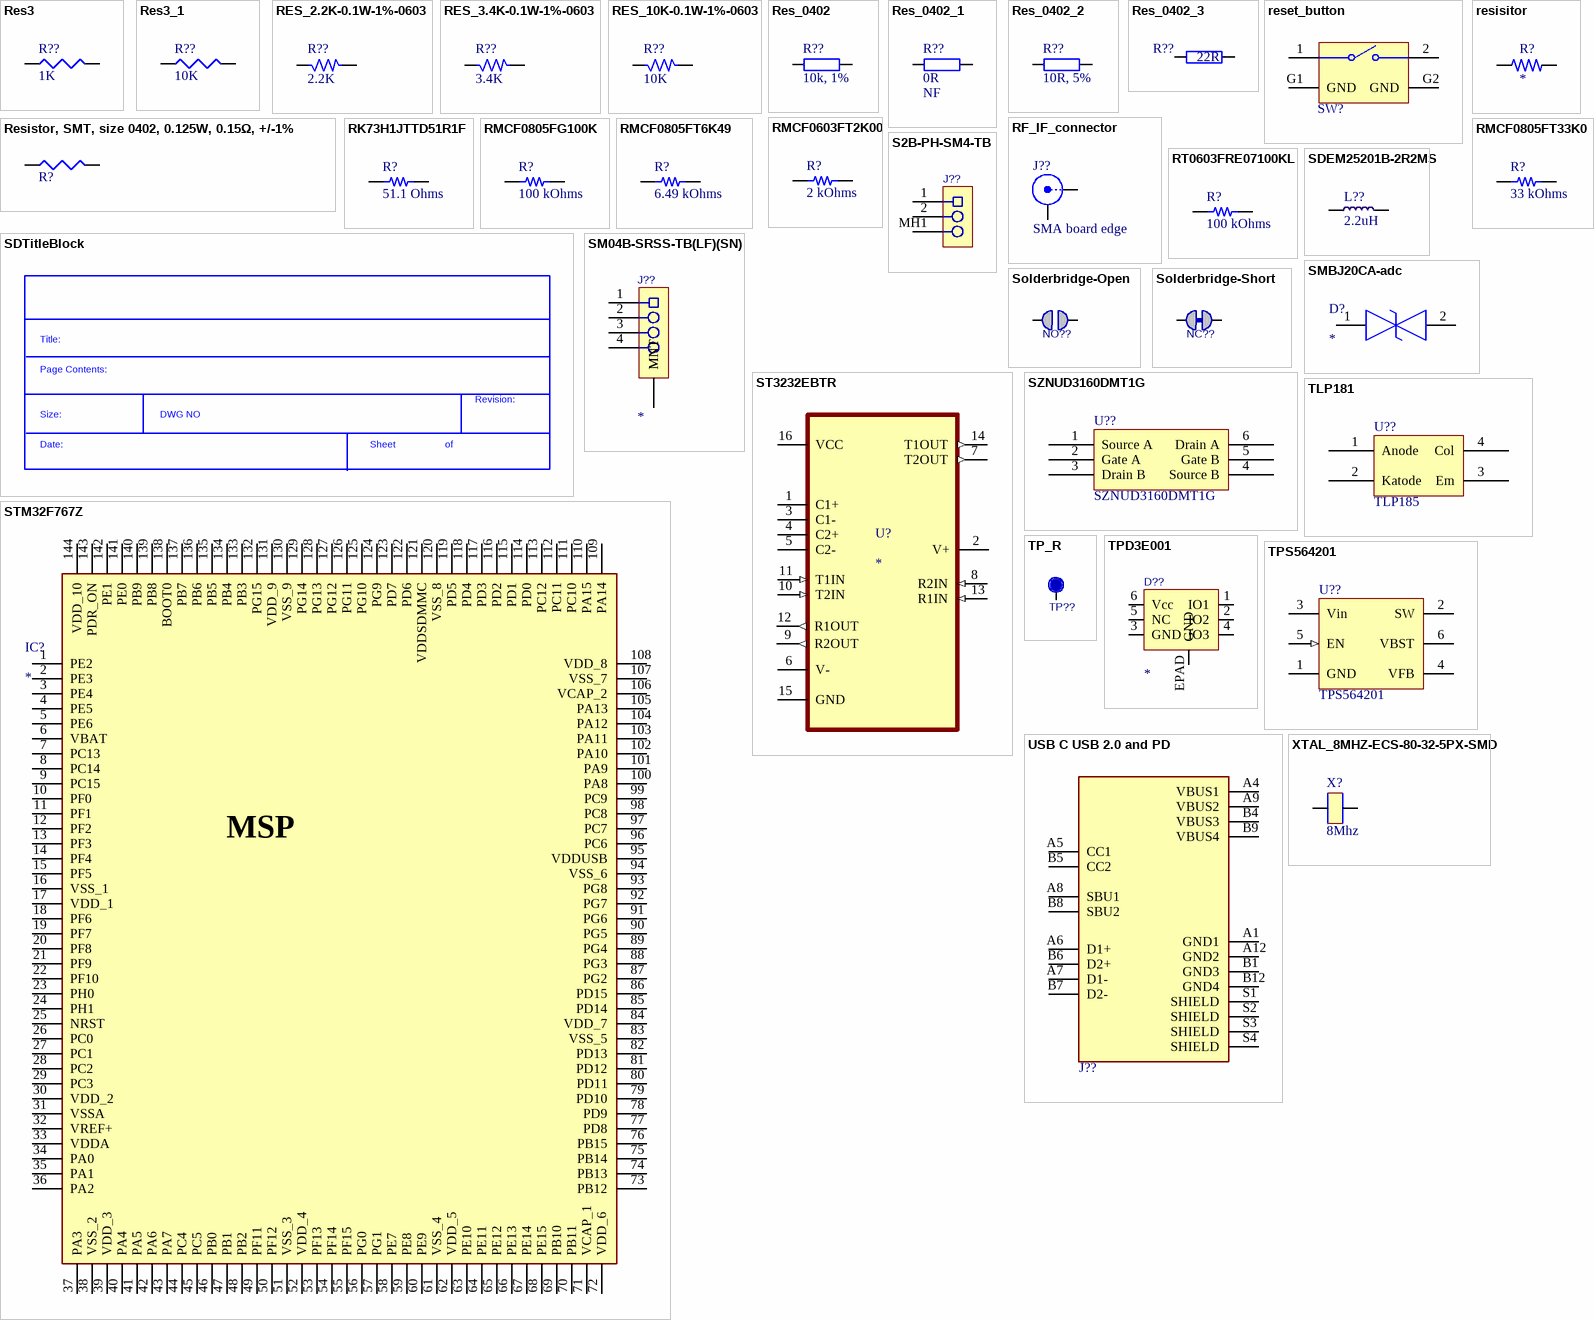
[diagram p5: symbols Res3 to XTAL_8MHZ-ECS-80-32-5PX-SMD]

## Res3
designator R??, comment 1K
RES SMD 1K OHM 1% 1/10W 0603; Manufacturer Part Number: RC1608F102CS; Published: 8-Jun-2000; LatestRevisionDate: 29-May-2009; LatestRevisionNote: IPC-7351 Footprint Added.; PackageReference: J1-0603; Publisher: Altium Limited; PackageDescription: Chip Resistor; Digi-Key Part Number: 1276-3484-1-ND; Value: 1K
footprint RES 0603_1608
footprint RESC3225L (Chip Resistor, Body 3.2x2.5mm, IPC High Density)
footprint RESC5025L (Chip Resistor, Body 5.0x2.5mm, IPC High Density)
footprint RESC6332L (Chip Resistor, Body 6.3x3.2mm, IPC High Density)
simulation model RESISTOR (Resistor)
signal-integrity model Res
pins: 1, 2

## Res3_1
designator R??, comment 10K
RES SMD 10K OHM 1% 1/10W 0603; Manufacturer Part Number: RC1608F103CS; Digi-Key Part Number: 1276-3485-1-ND; Value: 10K
footprint RES 0603_1608
footprint RESC3225L (Chip Resistor, Body 3.2x2.5mm, IPC High Density)
footprint RESC5025L (Chip Resistor, Body 5.0x2.5mm, IPC High Density)
footprint RESC6332L (Chip Resistor, Body 6.3x3.2mm, IPC High Density)
simulation model RESISTOR (Resistor)
signal-integrity model Res
pins: 1, 2

## RES_2.2K-0.1W-1%-0603
designator R??, comment 2.2K
2.2 kOhms ±1% 0.1W, 1/10W Chip Resistor 0603 (1608 Metric) Thick Film; Manufacturer: Yageo; Manufacturer Part Number: RC0603FR-072K2L; Case/Package: 0603; Supplier-1: Digikey
footprint RES 0603_1608
pins: 1, 2

## RES_3.4K-0.1W-1%-0603
designator R??, comment 3.4K
3.4 kOhms ±1% 0.1W, 1/10W Chip Resistor 0603 (1608 Metric) Automotive AEC-Q200 Thick Film; Manufacturer: Stackpole Electronics Inc; Manufacturer Part Number: RMCF0603FT3K40; Case/Package: 0603; Supplier-1: Digikey
footprint RES 0603_1608
pins: 1, 2

## RES_10K-0.1W-1%-0603
designator R??, comment 10K
10 kOhms ±1% 0.1W, 1/10W Chip Resistor 0603 (1608 Metric) Thick Film; Manufacturer: Yageo; Manufacturer Part Number: RC0603FR-0710KL; Case/Package: 0603; Supplier-1: Digikey
footprint RES 0603_1608
pins: 1, 2

## Res_0402
designator R??, comment 10k, 1%
Manufacturer: Yageo; Manufacturer Part Number 1: RC0402FR-0710KL; Part Description: RES SMD 10K OHM 1% 1/16W 0402; Temperature Coefficient: ±100ppm/°C; Power (Watts): 0.063W, 1/16W; Value: 10k, 1%; Supplier 1: Digi-Key; Supplier Part Number 1: 311-10.0KLRTR-ND; Resistance (Ohms): 10k; Packaging: Tape & Reel (TR); RoHS: RoHS Compliant; Package / Case: 0402 (1005 Metric); Tolerance: ±1%; Operating Temperature: -55°C ~ 155°C; Size / Dimension: 0.039" L x 0.020" W (1.00mm x 0.50mm); Number of Terminations: 2; Category: Resistors; Height: 0.016" (0.40mm); Supplier Device Package: 0402; Features: Moisture Resistant; Composition: Thick Film
footprint RES0402 (Chip Resistor, Body 1.0x0.5mm, EIA 0402, IPC Medium Density)
pins: 1, 2

## Res_0402_1
designator R??, comment 0R  Assembly Info: NF
Manufacturer Part Number 1: RC0402JR-070RL; Manufacturer: Yageo; Part Description: RES SMD 0.0OHM JUMPER 1/16W 0402; Resistance (Ohms): 0.0; Tolerance: Jumper; Power (Watts): 0.063W, 1/16W; Value: 0R; Supplier 1: Digi-Key; Supplier Part Number 1: 311-0.0JRTR-ND; Category: Resistors; Temperature Coefficient: -; Features: Moisture Resistant; Supplier Device Package: 0402; Height: 0.016" (0.40mm); Package / Case: 0402 (1005 Metric); Operating Temperature: -55°C ~ 155°C; Size / Dimension: 0.039" L x 0.020" W (1.00mm x 0.50mm); Composition: Thick Film; Packaging: Tape & Reel (TR); Number of Terminations: 2; RoHS: RoHS Compliant
footprint RES0402 (Chip Resistor, Body 1.0x0.5mm, EIA 0402, IPC Medium Density)
pins: 1, 2

## Res_0402_2
designator R??, comment 10R, 5%
Manufacturer Part Number 1: RC0402JR-0710RL; Manufacturer: Yageo; Part Description: RES SMD 10 OHM 5% 1/16W 0402; Power (Watts): 0.063W, 1/16W; Resistance (Ohms): 10; Temperature Coefficient: ±200ppm/°C; Value: 10R, 5%; Supplier 1: Digi-Key; Supplier Part Number 1: 311-10JRTR-ND; Number of Terminations: 2; Height: 0.016" (0.40mm); RoHS: RoHS Compliant; Composition: Thick Film; Packaging: Tape & Reel (TR); Category: Resistors; Supplier Device Package: 0402; Features: Moisture Resistant; Tolerance: ±5%; Operating Temperature: -55°C ~ 155°C; Size / Dimension: 0.039" L x 0.020" W (1.00mm x 0.50mm); Package / Case: 0402 (1005 Metric)
footprint RES0402 (Chip Resistor, Body 1.0x0.5mm, EIA 0402, IPC Medium Density)
pins: 1, 2

## Res_0402_3
designator R??, comment 22R
Part Description: RES SMD 22 OHM 1% 1/16W 0402; Manufacturer Part Number 1: RC0402FR-0722RL; Manufacturer: Yageo; Tolerance: ±1%; Temperature Coefficient: ±100ppm/°C; Resistance (Ohms): 22; Supplier 1: Digi-Key; Supplier Part Number 1: 311-22.0LRTR-ND; Supplier Device Package: 0402; Composition: Thick Film; Category: Resistors; Value: 22R
footprint RES0402 (Chip Resistor, Body 1.0x0.5mm, EIA 0402, IPC Medium Density)
pins: 1, 2

## reset_button
designator SW?, comment 431256058716  (value not drawn)
WS-TATU THT Tact Switch 6x6mm Right Angled Type with ground terminal, SPST-NO, 12VDC, 50mA, 160g; Manufacturer: Wurth Elektronik; Washable: No; ComponentLink1Description: Website Link; ComponentLink1URL: https://www.we-online.com/redexpert/article/431256058716?ad; ComponentLink2Description: Datasheet Link; ComponentLink2URL: https://www.we-online.com/redexpert/spec/431256058716?ad; Manufacturer Part Number: 431256058716; Category: Tact Switches; Match Code: WS-TATU; Mount: Through Hole; Operating Temperature Max: 85°C; Operating Temperature Min: -40°C; Packaging: Bulk; Length: 6mm; Width: 6mm; Height: 5.85mm; Circuit: SPST-NO; Contact Material: Stainless Steel; Contact Plating: Silver; Operation Force: 160g; Rated Current: 50mA; Rated Voltage: 12VDC; Terminal Material: Copper Alloy; Terminal Plating: Silver
footprint 4312560587x6
pins: 1 (power), 2, G1 GND, G2 GND

## resisitor
designator R?
Fixed Resistors; MP: CRG0805F33R; MF: TE Connectivity; Price: None; Package: 0805; Value: *; Purchase-URL: https://pricing.snapeda.com/search/part/CRG0805F33R/?ref=eda; Check_prices: https://www.snapeda.com/parts/CRG0805F33R/TE+Connectivity+Passive+Product/view-part/?ref=eda; Availability: In Stock; EU_RoHS_Compliance: Compliant with Exemptions; SnapEDA_Link: https://www.snapeda.com/parts/CRG0805F33R/TE+Connectivity+Passive+Product/view-part/?ref=snap
footprint WRIS-KSKE_0402_L1W0.5H0.35 (Thick Film Resistors, SMT, body size 1x0.5mm)
pins: 1, 2

## Resistor, SMT, size 0402, 0.125W, 0.15Ω, +/-1%
designator R?, comment 0.15Ω  (value not drawn)
Resistor, SMT, size 0402, 0.125W, 0.15Ω, +/-1%; Manufacturer Part Number: 560050310002; Manufacturer: Wurth Elektronik; Match Code: WRIS-KSKE; Case/Size Code: 0402; Rated Current: 0.91A; Technical Reference: KE0402R150F108IAATH0000; Temperature Coefficient of Resistance: 300ppm/°C; Category: Thick Film Resistors; ComponentLink1Description: Website Link; ComponentLink1URL: https://www.we-online.com/redexpert/article/560050310002?ad; ComponentLink2Description: Datasheet Link; ComponentLink2URL: https://www.we-online.com/redexpert/spec/560050310002?ad; Mount: Surface Mount; Operating Temperature Max: 155°C; Operating Temperature Min: -55°C; Packaging: Tape and Reel; Length: 1mm; Width: 0.5mm; Height: 0.35mm; Rated Power: 0.125W; Resistance: 0.15Ω; Resistance Tolerance: +/-1%
footprint WRIS-KSKE_0402_L1W0.5H0.35
pins: 1, 2

## RF_IF_connector
designator J??, comment SMA board edge
CONN SMA JACK STR 50OHM EDGE MNT; Manufacturer: RF Solutions; Manufacturer Part Number 1: CON-SMA-EDGE-S; Part Description: SMA Connector Jack, Female Socket Board Edge, End Launch Solder; Connector Type: Jack, Female Socket; Contact Termination: Solder; Supplier 1: Digi-Key; Supplier Part Number 1: CON-SMA-EDGE-S-ND; RoHS: RoHS Compliant; Category: Connectors, Interconnects; Stock 1: 1751; Pricing 1: 1=2.1 (USD); Packaging: -; Part Status: Active; Connector Style: SMA; Shield Termination: Solder; Impedance: -; Mounting Type: Board Edge, End Launch; Mounting Feature: -; Cable Group: -; Fastening Type: Threaded; Frequency - Max: -; Features: -; Housing Color: -; Ingress Protection: -; Includes: -; Body Material: -; Body Finish: -; Center Contact Plating: -; Dielectric Material: -; Operating Temperature: -; Center Contact Material: -; Voltage Rating: -; Mating Cycles: -; Insertion Loss: -; ComponentLink1URL: http://media.digikey.com/pdf/Data%20Sheets/RF%20Solutions%20PDFs/CON-SMA-EDGE.pdf; ComponentLink1Description: http://media.digikey.com/pdf/Data%20Sheets/RF%20Solutions%20PDFs/CON-SMA-EDGE.pdf
footprint MMCX_UFL_conn_u
footprint SMA_connector_board_edge_SM
footprint MMCX_UFL_conn_V4_M
pins: 1 X, 2 Y

## RK73H1JTTD51R1F
designator R?, comment 51.1 Ohms
RES 51.1 OHM 1% 1/8W 0603; Part Number: RK73H1JTTD51R1F; Manufacturer: KOA Speer Electronics, Inc.; Power (Watts): 0.125W, 1/8W; Temperature Coefficient: ±100ppm/°C; ComponentLink1Description: Datasheet; ComponentLink1URL: http://www.koaspeer.com/catimages/Products/RK73H/RK73H.pdf; ComponentLink2Description: DigiKey Link; ComponentLink2URL: http://digikey.com/product-detail/en/koa-speer-electronics-inc/RK73H1JTTD51R1F/2019-RK73H1JTTD51R1FCT-ND/9847024; Composition: Thick Film; Device Package: 0603 (1608 Metric); Features: Automotive AEC-Q200, Moisture Resistant; Height - Seated (Max): 0.022" (0.55mm); LastUpdated: 9/2/2020 01:10:22; Lifecycle Status: Active; Minimum Order: 1; Number of Terminations: 2; Operating Temperature: -55°C ~ 155°C; Package / Case: 0603 (1608 Metric); Packaging: CutTape; PartId: 6134; Part Status: Active; Price: 0.10; Ratings: AEC-Q200; Resistance: 51.1 Ohms; Series: RK73H; Size / Dimension: 0.063" L x 0.031" W (1.60mm x 0.80mm); Supplier 1: DigiKey; Supplier Part Number 1: 2019-RK73H1JTTD51R1FCT-ND; Supplier Device Package: 0603; Tolerance: ±1%; Value: 51.1 Ohms
footprint RES 0603_1608
pins: 1, 2

## RMCF0603FT2K00
designator R?, comment 2 kOhms
RES 2K OHM 1% 1/10W 0603; Part Number: RMCF0603FT2K00; Manufacturer: Stackpole Electronics Inc; Power (Watts): 0.1W, 1/10W; Temperature Coefficient: ±100ppm/°C; ComponentLink1Description: Datasheet; ComponentLink1URL: https://www.seielect.com/catalog/sei-rmcf_rmcp.pdf; ComponentLink2Description: DigiKey Link; ComponentLink2URL: http://digikey.com/product-detail/en/stackpole-electronics-inc/RMCF0603FT2K00/RMCF0603FT2K00CT-ND/1943009; Composition: Thick Film; Device Package: 0603 (1608 Metric); Features: Automotive AEC-Q200; Height - Seated (Max): 0.022" (0.55mm); LastUpdated: 02/09/2020 01:10:22; Lifecycle Status: Active; Minimum Order: 1; Number of Terminations: 2; Operating Temperature: -55°C ~ 155°C; Package / Case: 0603 (1608 Metric); Packaging: CutTape; PartId: 6085; Part Status: Active; Price: 0.10; Ratings: AEC-Q200; Resistance: 2 kOhms; Series: RMCF; Size / Dimension: 0.061" L x 0.031" W (1.55mm x 0.80mm); Supplier 1: DigiKey; Supplier Part Number 1: RMCF0603FT2K00CT-ND; Supplier Device Package: 0603; Tolerance: ±1%; Value: 2 kOhms
footprint RES 0603_1608
pins: 1, 2

## RMCF0805FG100K
designator R?, comment 100 kOhms
RES 100K OHM 1% 1/8W 0805; Part Number: RMCF0805FG100K; Manufacturer: Stackpole Electronics Inc; Power (Watts): 0.125W, 1/8W; Temperature Coefficient: ±100ppm/°C; ComponentLink1Description: Datasheet; ComponentLink1URL: https://www.seielect.com/catalog/sei-packaging.pdf; ComponentLink2Description: DigiKey Link; ComponentLink2URL: http://digikey.com/product-detail/en/stackpole-electronics-inc/RMCF0805FG100K/RMCF0805FG100KCT-ND/6053193; Composition: Thick Film; Device Package: 0805 (2012 Metric); Features: Automotive AEC-Q200; Height - Seated (Max): 0.026" (0.65mm); LastUpdated: 9/2/2020 01:15:10; Lifecycle Status: Active; Minimum Order: 1; Number of Terminations: 2; Operating Temperature: -55°C ~ 155°C; Package / Case: 0805 (2012 Metric); Packaging: CutTape; PartId: 34072; Part Status: Active; Price: 0.10; Ratings: AEC-Q200; Resistance: 100 kOhms; Series: RMCF; Size / Dimension: 0.079" L x 0.049" W (2.00mm x 1.25mm); Supplier 1: DigiKey; Supplier Part Number 1: RMCF0805FG100KCT-ND; Supplier Device Package: 0805; Tolerance: ±1%; Value: 100 kOhms
footprint RES 0805_2012
pins: 1, 2

## RMCF0805FT6K49
designator R?, comment 6.49 kOhms
RES 6.49K OHM 1% 1/8W 0805; Part Number: RMCF0805FT6K49; Manufacturer: Stackpole Electronics Inc; Power (Watts): 0.125W, 1/8W; Temperature Coefficient: ±100ppm/°C; ComponentLink1Description: Datasheet; ComponentLink1URL: https://www.seielect.com/catalog/sei-rmcf_rmcp.pdf; ComponentLink2Description: DigiKey Link; ComponentLink2URL: http://digikey.com/product-detail/en/stackpole-electronics-inc/RMCF0805FT6K49/RMCF0805FT6K49CT-ND/1942423; Composition: Thick Film; Device Package: 0805 (2012 Metric); Features: Automotive AEC-Q200; Height - Seated (Max): 0.026" (0.65mm); LastUpdated: 02/09/2020 01:14:25; Lifecycle Status: Active; Minimum Order: 1; Number of Terminations: 2; Operating Temperature: -55°C ~ 155°C; Package / Case: 0805 (2012 Metric); Packaging: CutTape; PartId: 49590; Part Status: Active; Price: 0.10; Ratings: AEC-Q200; Resistance: 6.49 kOhms; Series: RMCF; Size / Dimension: 0.079" L x 0.049" W (2.00mm x 1.25mm); Supplier 1: DigiKey; Supplier Part Number 1: RMCF0805FT6K49CT-ND; Supplier Device Package: 0805; Tolerance: ±1%; Value: 6.49 kOhms
footprint RES 0805_2012
pins: 1, 2

## RMCF0805FT33K0
designator R?, comment 33 kOhms
RES 33K OHM 1% 1/8W 0805; Part Number: RMCF0805FT33K0; Manufacturer: Stackpole Electronics Inc; Power (Watts): 0.125W, 1/8W; Temperature Coefficient: ±100ppm/°C; ComponentLink1Description: Datasheet; ComponentLink1URL: https://www.seielect.com/catalog/sei-rmcf_rmcp.pdf; ComponentLink2Description: DigiKey Link; ComponentLink2URL: http://digikey.com/product-detail/en/stackpole-electronics-inc/RMCF0805FT33K0/RMCF0805FT33K0CT-ND/1942464; Composition: Thick Film; Device Package: 0805 (2012 Metric); Features: Automotive AEC-Q200; Height - Seated (Max): 0.026" (0.65mm); LastUpdated: 02/09/2020 01:15:14; Lifecycle Status: Active; Minimum Order: 1; Number of Terminations: 2; Operating Temperature: -55°C ~ 155°C; Package / Case: 0805 (2012 Metric); Packaging: CutTape; PartId: 32416; Part Status: Active; Price: 0.10; Ratings: AEC-Q200; Resistance: 33 kOhms; Series: RMCF; Size / Dimension: 0.079" L x 0.049" W (2.00mm x 1.25mm); Supplier 1: DigiKey; Supplier Part Number 1: RMCF0805FT33K0CT-ND; Supplier Device Package: 0805; Tolerance: ±1%; Value: 33 kOhms
footprint RES 0805_2012
pins: 1, 2

## RT0603FRE07100KL
designator R?, comment 100 kOhms
RES SMD 100K OHM 1% 1/10W 0603; Part Number: RT0603FRE07100KL; Manufacturer: Yageo; Power (Watts): 0.1W, 1/10W; Temperature Coefficient: ±50ppm/°C; ComponentLink1Description: Datasheet; ComponentLink1URL: https://www.yageo.com/upload/media/product/productsearch/datasheet/rchip/PYu-RT_1-to-0.01_RoHS_L_11.pdf; ComponentLink2Description: DigiKey Link; ComponentLink2URL: http://digikey.com/product-detail/en/yageo/RT0603FRE07100KL/YAG2319CT-ND/5252433; Composition: Thin Film; Device Package: 0603 (1608 Metric); Height - Seated (Max): 0.022" (0.55mm); LastUpdated: 9/2/2020 01:10:23; Lifecycle Status: Active; Minimum Order: 1; Number of Terminations: 2; Operating Temperature: -55°C ~ 155°C; Package / Case: 0603 (1608 Metric); Packaging: TapeAndReel; PartId: 5677; Part Status: Active; Price: 0.01; Resistance: 100 kOhms; Series: RT; Size / Dimension: 0.063" L x 0.031" W (1.60mm x 0.80mm); Supplier 1: DigiKey; Supplier Part Number 1: YAG2319CT-ND; Supplier Device Package: 0603; Tolerance: ±1%; Value: 100 kOhms
footprint RES 0603_1608
pins: 1, 2

## S2B-PH-SM4-TB
designator J??
Conn, SMT, 0.079" Pitch, 2 Pin, R/A, Black; Part Number: S2B-PH-SM4-TB; Item Phase: In Production; Use in new designs: Yes; Voltage: None; Manufacturer Part Number 1: S2B-PH-SM4-TB; Supplier 1: None; Supplier Part Number 1: None; Diameter: None; Height: 5.5mm; Max Operating Temp: None; Min Operating Temp: None; Part Name: Conn, SMT, 0.079" Pitch, 2 Pin, R/A, Black; Pins: 2; Revision: 0A; UBX Code: None; Manufacturer 2: None; Manufacturer Part Number 2: None; Supplier 2: None; Supplier Part Number 2: None; Manufacturer P/N: *
footprint S2B-PH-SM4-TB (Connector Header Surface Mount, Right Angle 2 position 0.079" (2.00mm))
pins: 1, 2, MH1

## SDEM25201B-2R2MS
designator L??  value 2.2uH  (hidden comment: SDEM25201B-2R2MS)
2.2µH Shielded Inductor 2.05A 117mOhm Max 1008 (2520 Metric); Supplier 1: Digi-Key; Supplier Part Number 1: 2037-SDEM25201B-2R2MSCT-ND
footprint L1008 (Cyntec SDEM25201B)
pins: 1, 2

## SDTitleBlock
designator *??  (value not drawn)  (graphical)
text: Title:; Page Contents:; Revision:; Size:; DWG NO; Date:; Sheet; of

## SM04B-SRSS-TB(LF)(SN)
designator J??
Conn, Header, SMD, 1mm Pitch, 4 Pin, R/A, White; Part Number: SM04B-SRSS-TB(LF)(SN); Manufacturer 1: JST Sales America Inc.; Part Name: CONN HEADER SMD R/A 4POS 1MM; Item Phase: In Production; Use in new designs: Yes; Voltage: None; Manufacturer Part Number 1: SM04B-SRSS-TB(LF)(SN); Supplier 1: None; Supplier Part Number 1: None; Diameter: None; Height: 2.9mm; Max Operating Temp: None; Min Operating Temp: None; Pins: 4; Revision: 0A; UBX Code: None; Manufacturer 2: None; Manufacturer Part Number 2: None; Supplier 2: None; Supplier Part Number 2: None; Manufacturer P/N: *
footprint SM04B-SRSS-TB(LF)(SN) (CONN HEADER SMD R/A 4POS 1MM)
pins: 1, 2, 3, 4, M1 MNT, M2 MNT

## SMBJ20CA-adc
designator D?
TVS Diode (Bi-directional); Manufacturer_Name: onsemi; Manufacturer_Part_Number: SMBJ20CA; Datasheet Link: https://componentsearchengine.com/Datasheets/1/SMBJ20CA.pdf; Height: 2.45mm; Mouser Part Number: 512-SMBJ20CA; Mouser Price/Stock: https://www.mouser.co.uk/ProductDetail/onsemi-Fairchild/SMBJ20CA?qs=iN0KuJO79Ka3il%2FXEzRA3A%3D%3D; Arrow Part Number: SMBJ20CA; Arrow Price/Stock: https://www.arrow.com/en/products/smbj20ca/on-semiconductor
footprint DIOM5336X245N
pins: 1, 2

## Solderbridge-Open
designator NO??, comment Solderbridge-OpenDNP  (value not drawn)  (no BOM)
Solderbridge-Open; Added By: Paul B; Part Number: Solderbridge-Open; Height: 0; DNP: DNP; Added Date: 12/2/2015
footprint Solderbridge-Open
pins: 1, 2

## Solderbridge-Short
designator NC??, comment Solderbridge-ShortDNP  (value not drawn)  (net tie, no BOM)
Solderbridge-Short; Added By: Paul B; Part Number: Solderbridge-Short; Height: 0; DNP: DNP; Added Date: 12/2/2015
footprint Solderbridge-Short
pins: 1, 2

## ST3232EBTR
designator U?
2/2 Transceiver Full RS232 16-TSSOP; MP: ST3232EBTR; MF: STMicroelectronics; SnapEDA_Link: https://www.snapeda.com/parts/ST3232EBTR/STMicroelectronics/view-part/?ref=snap; Availability: In Stock; Purchase-URL: https://pricing.snapeda.com/search/part/ST3232EBTR/?ref=eda; Value: *; Price: None; Package: TSSOP-16 STMicroelectronics; Check_prices: https://www.snapeda.com/parts/ST3232EBTR/STMicroelectronics/view-part/?ref=eda
footprint SOP65P640X120-14N
pins: 1 C1+, 2 V+ (power), 3 C1-, 4 C2+, 5 C2-, 6 V- (power), 7 T2OUT (out), 8 R2IN (in), 9 R2OUT (out), 10 T2IN (in), 11 T1IN (in), 12 R1OUT (out), 13 R1IN (in), 14 T1OUT (out), 15 GND, 16 VCC (power)

## STM32F767Z
designator IC?
Integrated Circuit; Manufacturer_Name: STMicroelectronics; Manufacturer_Part_Number: STM32F767ZGT6; Datasheet Link: http://www.st.com/content/ccc/resource/technical/document/datasheet/group3/c5/37/9c/1d/a6/09/4e/1a/DM00273119/files/DM00273119.pdf/jcr:content/translations/en.DM00273119.pdf; Height: 1.6mm; Mouser Part Number: 511-STM32F767ZGT6; Mouser Price/Stock: https://www.mouser.co.uk/ProductDetail/STMicroelectronics/STM32F767ZGT6?qs=qzCNEk%252BRr%252BZ4AVbZI2VU4A%3D%3D; Arrow Part Number: STM32F767ZGT6; Arrow Price/Stock: https://www.arrow.com/en/products/stm32f767zgt6/stmicroelectronics?region=nac
footprint QFP50P2200X2200X160-144N
pins: 1 PE2, 2 PE3, 3 PE4, 4 PE5, 5 PE6, 6 VBAT, 7 PC13, 8 PC14, 9 PC15, 10 PF0, 11 PF1, 12 PF2, 13 PF3, 14 PF4, 15 PF5, 16 VSS_1, 17 VDD_1, 18 PF6, 19 PF7, 20 PF8, 21 PF9, 22 PF10, 23 PH0, 24 PH1, 25 NRST, 26 PC0, 27 PC1, 28 PC2, 29 PC3, 30 VDD_2, 31 VSSA, 32 VREF+, 33 VDDA, 34 PA0, 35 PA1, 36 PA2, 37 PA3, 38 VSS_2, 39 VDD_3, 40 PA4, 41 PA5, 42 PA6, 43 PA7, 44 PC4, 45 PC5, 46 PB0, 47 PB1, 48 PB2, 49 PF11, 50 PF12, 51 VSS_3, 52 VDD_4, 53 PF13, 54 PF14, 55 PF15, 56 PG0, 57 PG1, 58 PE7, 59 PE8, 60 PE9, 61 VSS_4, 62 VDD_5, 63 PE10, 64 PE11, 65 PE12, 66 PE13, 67 PE14, 68 PE15, 69 PB10, 70 PB11, 71 VCAP_1, 72 VDD_6, 73 PB12, 74 PB13, 75 PB14, 76 PB15, 77 PD8, 78 PD9, 79 PD10, 80 PD11, 81 PD12, 82 PD13, 83 VSS_5, 84 VDD_7, 85 PD14, 86 PD15, 87 PG2, 88 PG3, 89 PG4, 90 PG5, 91 PG6, 92 PG7, 93 PG8, 94 VSS_6, 95 VDDUSB, 96 PC6, 97 PC7, 98 PC8, 99 PC9, 100 PA8, 101 PA9, 102 PA10, 103 PA11, 104 PA12, 105 PA13, 106 VCAP_2, 107 VSS_7, 108 VDD_8, 109 PA14, 110 PA15, 111 PC10, 112 PC11, 113 PC12, 114 PD0, 115 PD1, 116 PD2, 117 PD3, 118 PD4, 119 PD5, 120 VSS_8, 121 VDDSDMMC, 122 PD6, 123 PD7, 124 PG9, 125 PG10, 126 PG11, 127 PG12, 128 PG13, 129 PG14, 130 VSS_9, 131 VDD_9, 132 PG15, 133 PB3, 134 PB4, 135 PB5, 136 PB6, 137 PB7, 138 BOOT0, 139 PB8, 140 PB9, 141 PE0, 142 PE1, 143 PDR_ON, 144 VDD_10
text: MSP